# Altium footprint library STM32F051 Components.PcbLib: 18 footprints (part 2 of 2)
Each footprint in its own frame and in the unit in brackets; x right, y up, seen from the top. Pads: shape width x height; smd on the part's side, far side on the other; paste and mask are expansions set on the pad; w line width, h text height; cw(c..) or ccw(c..) is an arc to the next point about the centre after c.
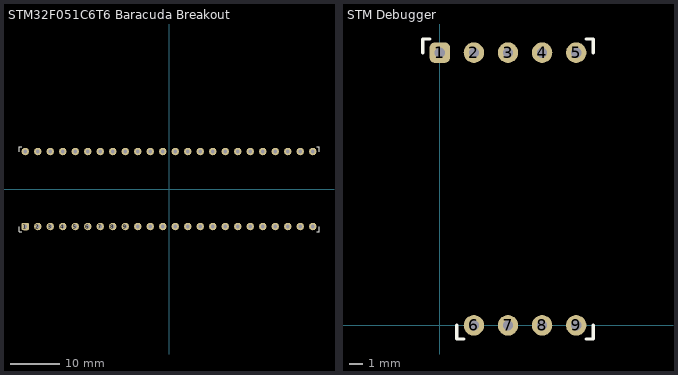
[diagram p1: the footprints below, top view; thin cyan lines are the x and y axes]

## STM32F051C6T6 Baracuda Breakout [mil] "Breakout Board Footprint for STN32F051C6T6"
height 500
pads (48):
  rrect50% 60x60 hole 30: 1(-1150,-300)
  round 60 hole 30: 2(-1050,-300) 3(-950,-300) 4(-850,-300) 5(-750,-300) 6(-650,-300) 7(-550,-300) 8(-450,-300) 9(-350,-300) 10(-250,-300) 11(-150,-300) 12(-50,-300) 13(50,-300) 14(150,-300) 15(250,-300) 16(350,-300) 17(450,-300) 18(550,-300) 19(650,-300) 20(750,-300) 21(850,-300) 22(950,-300) 23(1050,-300) 24(1150,-300) 25(1150,300) 26(1050,300) 27(950,300) 28(850,300) 29(750,300) 30(650,300) 31(550,300) 32(450,300) 33(350,300) 34(250,300) 35(150,300) 36(50,300) 37(-50,300) 38(-150,300) 39(-250,300) 40(-350,300) 41(-450,300) 42(-550,300) 43(-650,300) 44(-750,300) 45(-850,300) 46(-950,300) 47(-1050,300) 48(-1150,300)
Top Overlay:
  lines w10: -1200,-300 -1200,-340 -1180,-340 ; -1200,300 -1200,340 -1180,340 ; 1180,-340 1200,-340 1200,-300 ; 1180,340 1200,340 1200,300
3D body: height 590.55, standoff 511.81, extent -1220.47,-354.33 1220.47,354.33
3D body: height 511.81, standoff 0, extent -1200.79,-338.58 1200.79,-263.78
3D body: height 511.81, standoff 0, extent -1200.79,263.78 1200.79,338.58

## STM Debugger [mil] "STM32F1 Debugger Module"
height 500
pads (9):
  rrect50% 60x60 hole 30: 1(0,800)
  round 60 hole 30: 2(100,800) 3(200,800) 4(300,800) 5(400,800) 6(100,0) 7(200,0) 8(300,0) 9(400,0)
Top Overlay:
  lines w10: -50,800 -50,840 -30,840 ; 50,0 50,-40 70,-40 ; 430,-40 450,-40 450,0 ; 430,840 450,840 450,800
3D body: height 511.81, standoff 0, extent 51.18,-39.37 448.82,35.43
3D body: height 511.81, standoff 0, extent -51.1,759.84 448.82,840.56
3D body: height 590.55, standoff 511.81, extent -65.07,-49.03 551.18,846.46